# Altium schematic symbol library SW DIP-5.Schlib: 1 symbol
Pins are listed as number, name and electrical type; pins without a type are passive.

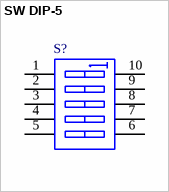
[diagram p0: symbol SW DIP-5]

## SW DIP-5
designator S?
DIP Switch, 5 Position, SPST
pins: 1 A1, 2 A2, 3 A3, 4 A4, 5 A5, 6 B5, 7 B4, 8 B3, 9 B2, 10 B1